# EAGLE library part MICROMAG (library SteveMarple)
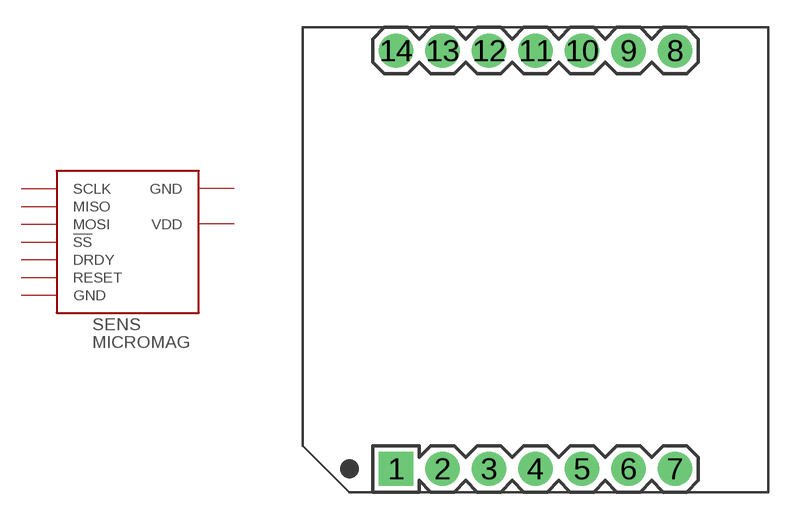
[diagram p7: symbol with the pads of MICROMAG; footprint MICROMAG]

Designator prefix SENS

## MICROMAG  [MICROMAG]
1  SCLK  in
2  MISO  out
3  MOSI  in
4  !SS  in
5  DRDY  out
6  RESET  in
7  GND  pwr
12  VDD  pwr
14  GND  pwr

## Footprint MICROMAG (pad centres in mm)
drill 1.016 pad 1.88 square: 1 -7.62,-11.43
drill 1.016 pad 1.88: 2 -5.08,-11.43; 3 -2.54,-11.43; 4 0,-11.43; 5 2.54,-11.43; 6 5.08,-11.43; 7 7.62,-11.43; 8 7.62,11.43; 9 5.08,11.43; 10 2.54,11.43; 11 0,11.43; 12 -2.54,11.43; 13 -5.08,11.43; 14 -7.62,11.43